# Altium schematic symbol library WL-OCDA.SchLib: 7 symbols
Pins are listed as number, name and electrical type; pins without a type are passive.

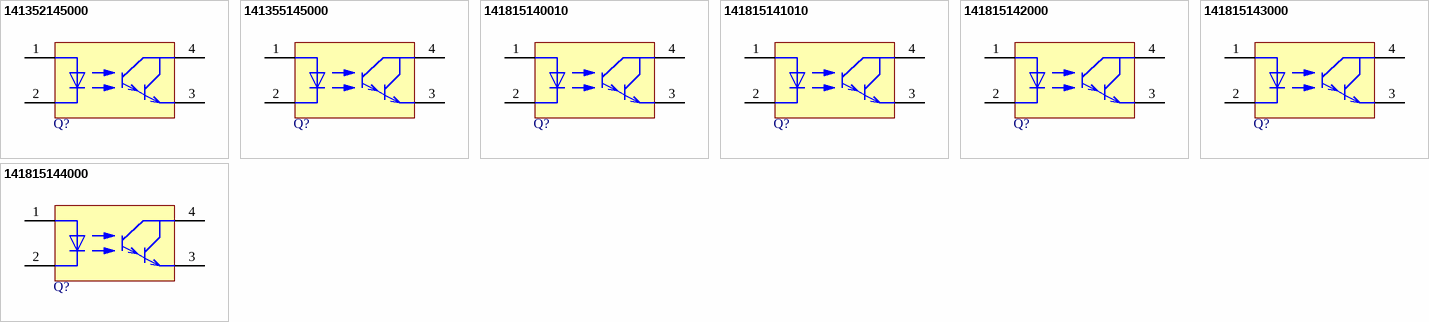
[diagram p0: symbols 141352145000 to 141815144000]

## 141352145000
designator Q?, comment DC, 350V, 60mA  (value not drawn)
WL-OCDA Optocoupler Darlington, SMT, SOP 4, DC, 350V, 60mA; Manufacturer Part Number: 141352145000; Manufacturer: Wurth Elektronik; Case/Size Code: SOP 4; Current Transfer Ratio Max: 15000%; Current Transfer Ratio Min: 1000%; Isolation Voltage: 3750Vrms; Category: Optocoupler Darlington; Match Code: WL-OCDA; ComponentLink1Description: Website Link; ComponentLink1URL: https://www.we-online.com/redexpert/article/141352145000?ad; ComponentLink2Description: Datasheet Link; ComponentLink2URL: https://www.we-online.com/redexpert/spec/141352145000?ad; Mount: Surface Mount; Operating Temperature Max: 110°C; Operating Temperature Min: -55°C; Packaging: Tape and Reel; Length: 7mm; Width: 3.6mm; Height: 2.1mm; Collector Emitter Voltage: 350V; Forward Current: 60mA; Input: DC
footprint WL-OCDA_SOP 4
simulation model Series_352_14135214xxx
pins: 1 Anode, 2 Cathode, 3 Emitter, 4 Collector

## 141355145000
designator Q?, comment DC, 40V, 60mA  (value not drawn)
WL-OCDA Optocoupler Darlington, SMT, SOP 4, DC, 40V, 60mA; Manufacturer Part Number: 141355145000; Manufacturer: Wurth Elektronik; Case/Size Code: SOP 4; Current Transfer Ratio Max: 7500%; Current Transfer Ratio Min: 600%; Isolation Voltage: 3750Vrms; Category: Optocoupler Darlington; Match Code: WL-OCDA; ComponentLink1Description: Website Link; ComponentLink1URL: https://www.we-online.com/redexpert/article/141355145000?ad; ComponentLink2Description: Datasheet Link; ComponentLink2URL: https://www.we-online.com/redexpert/spec/141355145000?ad; Mount: Surface Mount; Operating Temperature Max: 110°C; Operating Temperature Min: -55°C; Packaging: Tape and Reel; Length: 7mm; Width: 3.6mm; Height: 2.1mm; Collector Emitter Voltage: 40V; Forward Current: 60mA; Input: DC
footprint WL-OCDA_SOP 4
simulation model Series_355_14135514xxx
pins: 1 Anode, 2 Cathode, 3 Emitter, 4 Collector

## 141815140010
designator Q?, comment DC, 40V, 60mA  (value not drawn)
WL-OCDA Optocoupler Darlington, THT, DIP 4 Standard, DC, 40V, 60mA; Manufacturer Part Number: 141815140010; Manufacturer: Wurth Elektronik; Current Transfer Ratio Max: 7500%; Current Transfer Ratio Min: 600%; Isolation Voltage: 5000Vrms; Category: Optocoupler Darlington; Match Code: WL-OCDA; ComponentLink1Description: Website Link; ComponentLink1URL: https://www.we-online.com/redexpert/article/141815140010?ad; ComponentLink2Description: Datasheet Link; ComponentLink2URL: https://www.we-online.com/redexpert/spec/141815140010?ad; Mount: Through Hole; Operating Temperature Max: 110°C; Operating Temperature Min: -55°C; Packaging: Tube; Case/Size Code: DIP 4 Standard; Length: 9.5mm; Width: 4.58mm; Height: 4.5mm; Collector Emitter Voltage: 40V; Forward Current: 60mA; Input: DC
footprint WL-OCDA_DIP 4 Standard
simulation model Series_815_14181514xxx
pins: 1 Anode, 2 Cathode, 3 Emitter, 4 Collector

## 141815141010
designator Q?, comment DC, 40V, 60mA  (value not drawn)
WL-OCDA Optocoupler Darlington, THT, DIP 4 M-Type, DC, 40V, 60mA; Manufacturer Part Number: 141815141010; Manufacturer: Wurth Elektronik; Current Transfer Ratio Max: 7500%; Current Transfer Ratio Min: 600%; Isolation Voltage: 5000Vrms; Category: Optocoupler Darlington; Match Code: WL-OCDA; ComponentLink1Description: Website Link; ComponentLink1URL: https://www.we-online.com/redexpert/article/141815141010?ad; ComponentLink2Description: Datasheet Link; ComponentLink2URL: https://www.we-online.com/redexpert/spec/141815141010?ad; Mount: Through Hole; Operating Temperature Max: 110°C; Operating Temperature Min: -55°C; Packaging: Tube; Case/Size Code: DIP 4 M-Type; Length: 10.16mm; Width: 4.58mm; Height: 4.58mm; Collector Emitter Voltage: 40V; Forward Current: 60mA; Input: DC
footprint WL-OCDA_DIP 4 M-Type
simulation model Series_815_14181514xxx
pins: 1 Anode, 2 Cathode, 3 Emitter, 4 Collector

## 141815142000
designator Q?, comment DC, 40V, 60mA  (value not drawn)
WL-OCDA Optocoupler Darlington, SMT, DIP 4 S-Type, DC, 40V, 60mA; Manufacturer Part Number: 141815142000; Manufacturer: Wurth Elektronik; Current Transfer Ratio Max: 7500%; Current Transfer Ratio Min: 600%; Isolation Voltage: 5000Vrms; Category: Optocoupler Darlington; Match Code: WL-OCDA; ComponentLink1Description: Website Link; ComponentLink1URL: https://www.we-online.com/redexpert/article/141815142000?ad; ComponentLink2Description: Datasheet Link; ComponentLink2URL: https://www.we-online.com/redexpert/spec/141815142000?ad; Mount: Surface Mount; Operating Temperature Max: 110°C; Operating Temperature Min: -55°C; Packaging: Tape and Reel; Case/Size Code: DIP 4 S-Type; Length: 10.15mm; Width: 4.58mm; Height: 4.3mm; Collector Emitter Voltage: 40V; Forward Current: 60mA; Input: DC
footprint WL-OCDA_DIP 4 S-Type
simulation model Series_815_14181514xxx
pins: 1 Anode, 2 Cathode, 3 Emitter, 4 Collector

## 141815143000
designator Q?, comment DC, 40V, 60mA  (value not drawn)
WL-OCDA Optocoupler Darlington, SMT, DIP 4 SL-Type, DC, 40V, 60mA; Manufacturer Part Number: 141815143000; Manufacturer: Wurth Elektronik; Current Transfer Ratio Max: 7500%; Current Transfer Ratio Min: 600%; Isolation Voltage: 5000Vrms; Category: Optocoupler Darlington; Match Code: WL-OCDA; ComponentLink1Description: Website Link; ComponentLink1URL: https://www.we-online.com/redexpert/article/141815143000?ad; ComponentLink2Description: Datasheet Link; ComponentLink2URL: https://www.we-online.com/redexpert/spec/141815143000?ad; Mount: Surface Mount; Operating Temperature Max: 110°C; Operating Temperature Min: -55°C; Packaging: Tape and Reel; Case/Size Code: DIP 4 SL-Type; Length: 10.15mm; Width: 4.58mm; Height: 3.6mm; Collector Emitter Voltage: 40V; Forward Current: 60mA; Input: DC
footprint WL-OCDA_DIP 4 SL-Type
simulation model Series_815_14181514xxx
pins: 1 Anode, 2 Cathode, 3 Emitter, 4 Collector

## 141815144000
designator Q?, comment DC, 40V, 60mA  (value not drawn)
WL-OCDA Optocoupler Darlington, SMT, DIP 4 SLM-Type, DC, 40V, 60mA; Manufacturer Part Number: 141815144000; Manufacturer: Wurth Elektronik; Current Transfer Ratio Max: 7500%; Current Transfer Ratio Min: 600%; Isolation Voltage: 5000Vrms; Category: Optocoupler Darlington; Match Code: WL-OCDA; ComponentLink1Description: Website Link; ComponentLink1URL: https://www.we-online.com/redexpert/article/141815144000?ad; ComponentLink2Description: Datasheet Link; ComponentLink2URL: https://www.we-online.com/redexpert/spec/141815144000?ad; Mount: Surface Mount; Operating Temperature Max: 110°C; Operating Temperature Min: -55°C; Packaging: Tape and Reel; Case/Size Code: DIP 4 SLM-Type; Length: 11.8mm; Width: 4.58mm; Height: 3.75mm; Collector Emitter Voltage: 40V; Forward Current: 60mA; Input: DC
footprint WL-OCDA_DIP 4 SLM-Type
simulation model Series_815_14181514xxx
pins: 1 Anode, 2 Cathode, 3 Emitter, 4 Collector